# EAGLE library part NHD-0216KZW (library headers)
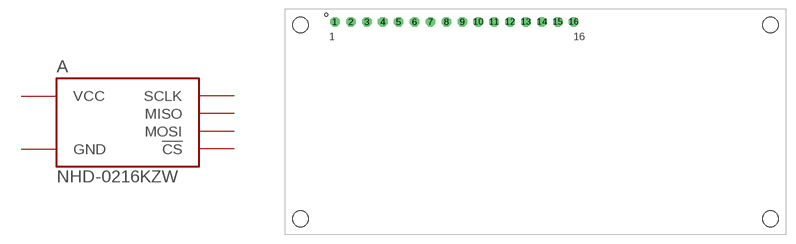
[diagram p19: symbol with the pads of NHD-0216KZW; footprint NHD-0216KZW]

Designator prefix A

## NHD-0216KZWSERIAL (DIGIKEY: NHD-0216KZW-AG5-ND,952-3305-ND)  [NHD-0216KZW]
1  GND
2  VCC
12  SCLK
13  MISO
14  MOSI
16  !CS

## Footprint NHD-0216KZW (pad centres in mm)
drill 1.016 octagon: 1 8,-2; 2 10.54,-2; 3 13.08,-2; 4 15.62,-2; 5 18.16,-2; 6 20.7,-2; 7 23.24,-2; 8 25.78,-2; 9 28.32,-2; 10 30.86,-2; 11 33.4,-2; 12 35.94,-2; 13 38.48,-2; 14 41.02,-2; 15 43.56,-2; 16 46.1,-2
hole 2.5 at 2.5,-2.5
hole 2.5 at 2.5,-33.5
hole 2.5 at 77.5,-33.5
hole 2.5 at 77.5,-2.5